# Altium footprint library Texas Instruments Footprints.PcbLib: 429 footprints (part 2 of 32)
Each footprint in its own frame and in the unit in brackets; x right, y up, seen from the top. Pads: shape width x height; smd on the part's side, far side on the other; paste and mask are expansions set on the pad; w line width, h text height; cw(c..) or ccw(c..) is an arc to the next point about the centre after c.
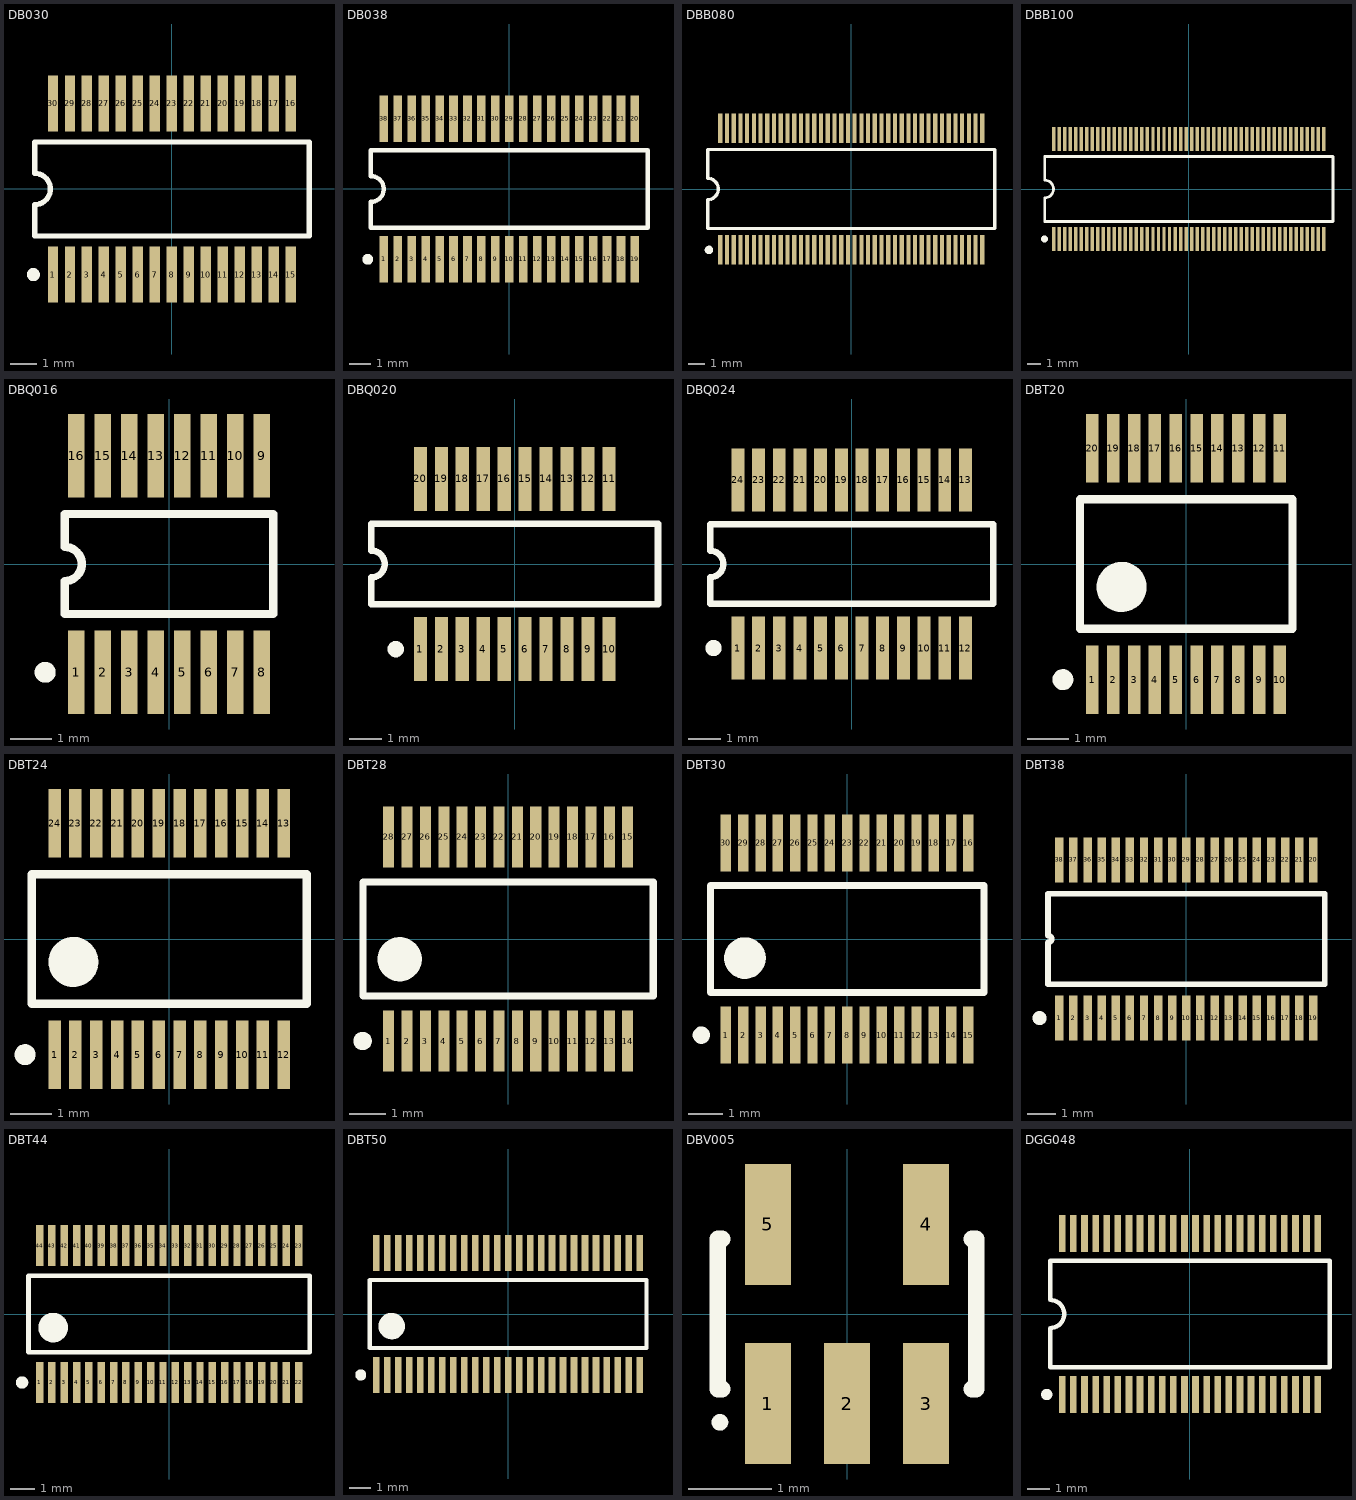
[diagram p1: the footprints below, top view; thin cyan lines are the x and y axes]

## DB030 [mm] "SSOP, Plastic; 30 Leads; Body Width 5.3 mm; Pitch 0.65 mm"
height 2
pads (30):
  rect 0.4x2.15 smd: 1(-4.55,-3.275) 2(-3.9,-3.275) 3(-3.25,-3.275) 4(-2.6,-3.275) 5(-1.95,-3.275) 6(-1.3,-3.275) 7(-0.65,-3.275) 8(0,-3.275) 9(0.65,-3.275) 10(1.3,-3.275) 11(1.95,-3.275) 12(2.6,-3.275) 13(3.25,-3.275) 14(3.9,-3.275) 15(4.55,-3.275) 16(4.55,3.275) 17(3.9,3.275) 18(3.25,3.275) 19(2.6,3.275) 20(1.95,3.275) 21(1.3,3.275) 22(0.65,3.275) 23(0,3.275) 24(-0.65,3.275) 25(-1.3,3.275) 26(-1.95,3.275) 27(-2.6,3.275) 28(-3.25,3.275) 29(-3.9,3.275) 30(-4.55,3.275)
Top Overlay:
  circle w0.25: c-5.3,-3.275 r0.125
  lines w0.2: -5.25,-1.8 -5.25,-0.6 ccw(c-5.25,0) -5.25,0.6 -5.25,1.8 5.25,1.8 5.25,-1.8 -5.25,-1.8

## DB038 [mm] "SSOP, Plastic; 38 Leads; Body Width 5.3 mm; Pitch 0.65 mm"
height 2
pads (38):
  rect 0.4x2.15 smd: 1(-5.85,-3.275) 2(-5.2,-3.275) 3(-4.55,-3.275) 4(-3.9,-3.275) 5(-3.25,-3.275) 6(-2.6,-3.275) 7(-1.95,-3.275) 8(-1.3,-3.275) 9(-0.65,-3.275) 10(0,-3.275) 11(0.65,-3.275) 12(1.3,-3.275) 13(1.95,-3.275) 14(2.6,-3.275) 15(3.25,-3.275) 16(3.9,-3.275) 17(4.55,-3.275) 18(5.2,-3.275) 19(5.85,-3.275) 20(5.85,3.275) 21(5.2,3.275) 22(4.55,3.275) 23(3.9,3.275) 24(3.25,3.275) 25(2.6,3.275) 26(1.95,3.275) 27(1.3,3.275) 28(0.65,3.275) 29(0,3.275) 30(-0.65,3.275) 31(-1.3,3.275) 32(-1.95,3.275) 33(-2.6,3.275) 34(-3.25,3.275) 35(-3.9,3.275) 36(-4.55,3.275) 37(-5.2,3.275) 38(-5.85,3.275)
Top Overlay:
  circle w0.25: c-6.6,-3.275 r0.125
  lines w0.2: -6.45,-1.8 6.45,-1.8 6.45,1.8 -6.45,1.8 -6.45,0.6 cw(c-6.45,0) -6.45,-0.6 -6.45,-1.8

## DBB080 [mm] "Shrink Small Outline; 80 Leads; Body Width 6.1 mm; Pitch 0.4 mm"
height 1.2
pads (80):
  rect 0.25x1.75 smd: 1(-7.8,-3.625) 2(-7.4,-3.625) 3(-7,-3.625) 4(-6.6,-3.625) 5(-6.2,-3.625) 6(-5.8,-3.625) 7(-5.4,-3.625) 8(-5,-3.625) 9(-4.6,-3.625) 10(-4.2,-3.625) 11(-3.8,-3.625) 12(-3.4,-3.625) 13(-3,-3.625) 14(-2.6,-3.625) 15(-2.2,-3.625) 16(-1.8,-3.625) 17(-1.4,-3.625) 18(-1,-3.625) 19(-0.6,-3.625) 20(-0.2,-3.625) 21(0.2,-3.625) 22(0.6,-3.625) 23(1,-3.625) 24(1.4,-3.625) 25(1.8,-3.625) 26(2.2,-3.625) 27(2.6,-3.625) 28(3,-3.625) 29(3.4,-3.625) 30(3.8,-3.625) 31(4.2,-3.625) 32(4.6,-3.625) 33(5,-3.625) 34(5.4,-3.625) 35(5.8,-3.625) 36(6.2,-3.625) 37(6.6,-3.625) 38(7,-3.625) 39(7.4,-3.625) 40(7.8,-3.625) 41(7.8,3.625) 42(7.4,3.625) 43(7,3.625) 44(6.6,3.625) 45(6.2,3.625) 46(5.8,3.625) 47(5.4,3.625) 48(5,3.625) 49(4.6,3.625) 50(4.2,3.625) 51(3.8,3.625) 52(3.4,3.625) 53(3,3.625) 54(2.6,3.625) 55(2.2,3.625) 56(1.8,3.625) 57(1.4,3.625) 58(1,3.625) 59(0.6,3.625) 60(0.2,3.625) 61(-0.2,3.625) 62(-0.6,3.625) 63(-1,3.625) 64(-1.4,3.625) 65(-1.8,3.625) 66(-2.2,3.625) 67(-2.6,3.625) 68(-3,3.625) 69(-3.4,3.625) 70(-3.8,3.625) 71(-4.2,3.625) 72(-4.6,3.625) 73(-5,3.625) 74(-5.4,3.625) 75(-5.8,3.625) 76(-6.2,3.625) 77(-6.6,3.625) 78(-7,3.625) 79(-7.4,3.625) 80(-7.8,3.625)
Top Overlay:
  circle w0.25: c-8.475,-3.625 r0.125
  lines w0.2: -8.55,-2.35 -8.55,-0.635 ccw(c-8.55,0) -8.55,0.635 -8.55,2.35 8.55,2.35 8.55,-2.35 -8.55,-2.35

## DBB100 [mm] "Shrink Small Outline; 100 Leads; Body Width 6.1 mm; Pitch 0.4 mm"
height 1.2
pads (100):
  rect 0.25x1.75 smd: 1(-9.8,-3.625) 2(-9.4,-3.625) 3(-9,-3.625) 4(-8.6,-3.625) 5(-8.2,-3.625) 6(-7.8,-3.625) 7(-7.4,-3.625) 8(-7,-3.625) 9(-6.6,-3.625) 10(-6.2,-3.625) 11(-5.8,-3.625) 12(-5.4,-3.625) 13(-5,-3.625) 14(-4.6,-3.625) 15(-4.2,-3.625) 16(-3.8,-3.625) 17(-3.4,-3.625) 18(-3,-3.625) 19(-2.6,-3.625) 20(-2.2,-3.625) 21(-1.8,-3.625) 22(-1.4,-3.625) 23(-1,-3.625) 24(-0.6,-3.625) 25(-0.2,-3.625) 26(0.2,-3.625) 27(0.6,-3.625) 28(1,-3.625) 29(1.4,-3.625) 30(1.8,-3.625) 31(2.2,-3.625) 32(2.6,-3.625) 33(3,-3.625) 34(3.4,-3.625) 35(3.8,-3.625) 36(4.2,-3.625) 37(4.6,-3.625) 38(5,-3.625) 39(5.4,-3.625) 40(5.8,-3.625) 41(6.2,-3.625) 42(6.6,-3.625) 43(7,-3.625) 44(7.4,-3.625) 45(7.8,-3.625) 46(8.2,-3.625) 47(8.6,-3.625) 48(9,-3.625) 49(9.4,-3.625) 50(9.8,-3.625) 51(9.8,3.625) 52(9.4,3.625) 53(9,3.625) 54(8.6,3.625) 55(8.2,3.625) 56(7.8,3.625) 57(7.4,3.625) 58(7,3.625) 59(6.6,3.625) 60(6.2,3.625) 61(5.8,3.625) 62(5.4,3.625) 63(5,3.625) 64(4.6,3.625) 65(4.2,3.625) 66(3.8,3.625) 67(3.4,3.625) 68(3,3.625) 69(2.6,3.625) 70(2.2,3.625) 71(1.8,3.625) 72(1.4,3.625) 73(1,3.625) 74(0.6,3.625) 75(0.2,3.625) 76(-0.2,3.625) 77(-0.6,3.625) 78(-1,3.625) 79(-1.4,3.625) 80(-1.8,3.625) 81(-2.2,3.625) 82(-2.6,3.625) 83(-3,3.625) 84(-3.4,3.625) 85(-3.8,3.625) 86(-4.2,3.625) 87(-4.6,3.625) 88(-5,3.625) 89(-5.4,3.625) 90(-5.8,3.625) 91(-6.2,3.625) 92(-6.6,3.625) 93(-7,3.625) 94(-7.4,3.625) 95(-7.8,3.625) 96(-8.2,3.625) 97(-8.6,3.625) 98(-9,3.625) 99(-9.4,3.625) 100(-9.8,3.625)
Top Overlay:
  circle w0.25: c-10.475,-3.625 r0.125
  lines w0.2: -10.45,-2.35 -10.45,-0.635 ccw(c-10.45,0) -10.45,0.635 -10.45,2.35 10.45,2.35 10.45,-2.35 -10.45,-2.35

## DBQ016 [mm] "SSOP; 16 Leads; Body Width 3.9 mm; Pitch 0.635 mm"
height 1.76
pads (16):
  rect 0.4x2 smd: 1(-2.222,-2.6) 2(-1.587,-2.6) 3(-0.953,-2.6) 4(-0.318,-2.6) 5(0.318,-2.6) 6(0.953,-2.6) 7(1.587,-2.6) 8(2.222,-2.6) 9(2.222,2.6) 10(1.587,2.6) 11(0.953,2.6) 12(0.318,2.6) 13(-0.318,2.6) 14(-0.953,2.6) 15(-1.587,2.6) 16(-2.222,2.6)
Top Overlay:
  circle w0.25: c-2.973,-2.6 r0.125
  lines w0.2: -2.5,-1.2 2.5,-1.2 2.5,1.2 -2.5,1.2 -2.5,0.408 cw(c-2.5,0) -2.5,-0.408 -2.5,-1.2

## DBQ020 [mm] "SSOP; 20 Leads; Body Width 3.9 mm; Pitch 0.64 mm"
height 1.75
pads (20):
  rect 0.4x1.95 smd: 1(-2.88,-2.6) 2(-2.24,-2.6) 3(-1.6,-2.6) 4(-0.96,-2.6) 5(-0.32,-2.6) 6(0.32,-2.6) 7(0.96,-2.6) 8(1.6,-2.6) 9(2.24,-2.6) 10(2.88,-2.6) 11(2.88,2.6) 12(2.24,2.6) 13(1.6,2.6) 14(0.96,2.6) 15(0.32,2.6) 16(-0.32,2.6) 17(-0.96,2.6) 18(-1.6,2.6) 19(-2.24,2.6) 20(-2.88,2.6)
Top Overlay:
  circle w0.25: c-3.63,-2.6 r0.125
  lines w0.2: -4.375,-1.225 -4.375,-0.408 ccw(c-4.375,0) -4.375,0.408 -4.375,1.225 4.375,1.225 4.375,-1.225 -4.375,-1.225

## DBQ024 [mm] "SSOP; 24 Leads; Body Width 3.9 mm; Pitch 0.64 mm"
height 1.75
pads (24):
  rect 0.4x1.95 smd: 1(-3.52,-2.6) 2(-2.88,-2.6) 3(-2.24,-2.6) 4(-1.6,-2.6) 5(-0.96,-2.6) 6(-0.32,-2.6) 7(0.32,-2.6) 8(0.96,-2.6) 9(1.6,-2.6) 10(2.24,-2.6) 11(2.88,-2.6) 12(3.52,-2.6) 13(3.52,2.6) 14(2.88,2.6) 15(2.24,2.6) 16(1.6,2.6) 17(0.96,2.6) 18(0.32,2.6) 19(-0.32,2.6) 20(-0.96,2.6) 21(-1.6,2.6) 22(-2.24,2.6) 23(-2.88,2.6) 24(-3.52,2.6)
Top Overlay:
  circle w0.25: c-4.27,-2.6 r0.125
  lines w0.2: -4.375,-1.225 -4.375,-0.408 ccw(c-4.375,0) -4.375,0.408 -4.375,1.225 4.375,1.225 4.375,-1.225 -4.375,-1.225

## DBT20 [mm] "Shrink Small Outline; 20 Leads; Body Width 4.4 mm; Pitch 0.5 mm"
height 1.2
pads (20):
  rect 0.3x1.65 smd: 1(-2.25,-2.775) 2(-1.75,-2.775) 3(-1.25,-2.775) 4(-0.75,-2.775) 5(-0.25,-2.775) 6(0.25,-2.775) 7(0.75,-2.775) 8(1.25,-2.775) 9(1.75,-2.775) 10(2.25,-2.775) 11(2.25,2.775) 12(1.75,2.775) 13(1.25,2.775) 14(0.75,2.775) 15(0.25,2.775) 16(-0.25,2.775) 17(-0.75,2.775) 18(-1.25,2.775) 19(-1.75,2.775) 20(-2.25,2.775)
Top Overlay:
  circle w0.6: c-1.55,-0.55 r0.3
  circle w0.25: c-2.96,-2.775 r0.125
  lines w0.2: -2.55,-1.55 2.55,-1.55 2.55,1.55 -2.55,1.55 -2.55,-0.517 -2.55,-1.55

## DBT24 [mm] "Shrink Small Outline; 24 Leads; Body Width 4.4 mm; Pitch 0.5 mm"
height 1.2
pads (24):
  rect 0.3x1.65 smd: 1(-2.75,-2.775) 2(-2.25,-2.775) 3(-1.75,-2.775) 4(-1.25,-2.775) 5(-0.75,-2.775) 6(-0.25,-2.775) 7(0.25,-2.775) 8(0.75,-2.775) 9(1.25,-2.775) 10(1.75,-2.775) 11(2.25,-2.775) 12(2.75,-2.775) 13(2.75,2.775) 14(2.25,2.775) 15(1.75,2.775) 16(1.25,2.775) 17(0.75,2.775) 18(0.25,2.775) 19(-0.25,2.775) 20(-0.75,2.775) 21(-1.25,2.775) 22(-1.75,2.775) 23(-2.25,2.775) 24(-2.75,2.775)
Top Overlay:
  circle w0.25: c-3.46,-2.775 r0.125
  circle w0.6: c-2.3,-0.55 r0.3
  lines w0.2: -3.3,-1.55 -3.3,-0.517 -3.3,1.55 3.3,1.55 3.3,-1.55 -3.3,-1.55

## DBT28 [mm] "Shrink Small Outline; 28 Leads; Body Width 4.4 mm; Pitch 0.5 mm"
height 1.2
pads (28):
  rect 0.3x1.65 smd: 1(-3.25,-2.775) 2(-2.75,-2.775) 3(-2.25,-2.775) 4(-1.75,-2.775) 5(-1.25,-2.775) 6(-0.75,-2.775) 7(-0.25,-2.775) 8(0.25,-2.775) 9(0.75,-2.775) 10(1.25,-2.775) 11(1.75,-2.775) 12(2.25,-2.775) 13(2.75,-2.775) 14(3.25,-2.775) 15(3.25,2.775) 16(2.75,2.775) 17(2.25,2.775) 18(1.75,2.775) 19(1.25,2.775) 20(0.75,2.775) 21(0.25,2.775) 22(-0.25,2.775) 23(-0.75,2.775) 24(-1.25,2.775) 25(-1.75,2.775) 26(-2.25,2.775) 27(-2.75,2.775) 28(-3.25,2.775)
Top Overlay:
  circle w0.25: c-3.96,-2.775 r0.125
  circle w0.6: c-2.95,-0.55 r0.3
  lines w0.2: -3.95,-1.55 -3.95,-0.517 -3.95,1.55 3.95,1.55 3.95,-1.55 -3.95,-1.55

## DBT30 [mm] "Shrink Small Outline; 30 Leads; Body Width 4.4 mm; Pitch 0.5 mm"
height 1.2
pads (30):
  rect 0.3x1.65 smd: 1(-3.5,-2.775) 2(-3,-2.775) 3(-2.5,-2.775) 4(-2,-2.775) 5(-1.5,-2.775) 6(-1,-2.775) 7(-0.5,-2.775) 8(0,-2.775) 9(0.5,-2.775) 10(1,-2.775) 11(1.5,-2.775) 12(2,-2.775) 13(2.5,-2.775) 14(3,-2.775) 15(3.5,-2.775) 16(3.5,2.775) 17(3,2.775) 18(2.5,2.775) 19(2,2.775) 20(1.5,2.775) 21(1,2.775) 22(0.5,2.775) 23(0,2.775) 24(-0.5,2.775) 25(-1,2.775) 26(-1.5,2.775) 27(-2,2.775) 28(-2.5,2.775) 29(-3,2.775) 30(-3.5,2.775)
Top Overlay:
  circle w0.6: c-2.95,-0.55 r0.3
  circle w0.25: c-4.21,-2.775 r0.125
  lines w0.2: -3.95,-1.55 3.95,-1.55 3.95,1.55 -3.95,1.55 -3.95,-0.517 -3.95,-1.55

## DBT38 [mm] "Shrink Small Outline; 38 Leads; Body Width 4.4 mm; Pitch 0.5 mm"
height 1.2
pads (38):
  rect 0.3x1.6 smd: 1(-4.5,-2.8) 2(-4,-2.8) 3(-3.5,-2.8) 4(-3,-2.8) 5(-2.5,-2.8) 6(-2,-2.8) 7(-1.5,-2.8) 8(-1,-2.8) 9(-0.5,-2.8) 10(0,-2.8) 11(0.5,-2.8) 12(1,-2.8) 13(1.5,-2.8) 14(2,-2.8) 15(2.5,-2.8) 16(3,-2.8) 17(3.5,-2.8) 18(4,-2.8) 19(4.5,-2.8) 20(4.5,2.8) 21(4,2.8) 22(3.5,2.8) 23(3,2.8) 24(2.5,2.8) 25(2,2.8) 26(1.5,2.8) 27(1,2.8) 28(0.5,2.8) 29(0,2.8) 30(-0.5,2.8) 31(-1,2.8) 32(-1.5,2.8) 33(-2,2.8) 34(-2.5,2.8) 35(-3,2.8) 36(-3.5,2.8) 37(-4,2.8) 38(-4.5,2.8)
Top Overlay:
  circle w0.25: c-5.2,-2.8 r0.125
  lines w0.2: -4.9,-1.6 -4.9,-0.125 ccw(c-4.9,0) -4.9,0.125 -4.9,1.6 4.9,1.6 4.9,-1.6 -4.9,-1.6

## DBT44 [mm] "Shrink Small Outline; 44 Leads; Body Width 4.4 mm; Pitch 0.5 mm"
height 1.2
pads (44):
  rect 0.3x1.65 smd: 1(-5.25,-2.775) 2(-4.75,-2.775) 3(-4.25,-2.775) 4(-3.75,-2.775) 5(-3.25,-2.775) 6(-2.75,-2.775) 7(-2.25,-2.775) 8(-1.75,-2.775) 9(-1.25,-2.775) 10(-0.75,-2.775) 11(-0.25,-2.775) 12(0.25,-2.775) 13(0.75,-2.775) 14(1.25,-2.775) 15(1.75,-2.775) 16(2.25,-2.775) 17(2.75,-2.775) 18(3.25,-2.775) 19(3.75,-2.775) 20(4.25,-2.775) 21(4.75,-2.775) 22(5.25,-2.775) 23(5.25,2.775) 24(4.75,2.775) 25(4.25,2.775) 26(3.75,2.775) 27(3.25,2.775) 28(2.75,2.775) 29(2.25,2.775) 30(1.75,2.775) 31(1.25,2.775) 32(0.75,2.775) 33(0.25,2.775) 34(-0.25,2.775) 35(-0.75,2.775) 36(-1.25,2.775) 37(-1.75,2.775) 38(-2.25,2.775) 39(-2.75,2.775) 40(-3.25,2.775) 41(-3.75,2.775) 42(-4.25,2.775) 43(-4.75,2.775) 44(-5.25,2.775)
Top Overlay:
  circle w0.25: c-5.96,-2.775 r0.125
  circle w0.6: c-4.7,-0.55 r0.3
  lines w0.2: -5.7,-1.55 -5.7,-0.517 -5.7,1.55 5.7,1.55 5.7,-1.55 -5.7,-1.55

## DBT50 [mm] "Shrink Small Outline; 50 Leads; Body Width 4.4 mm; Pitch 0.5 mm"
height 1.2
pads (50):
  rect 0.3x1.65 smd: 1(-6,-2.775) 2(-5.5,-2.775) 3(-5,-2.775) 4(-4.5,-2.775) 5(-4,-2.775) 6(-3.5,-2.775) 7(-3,-2.775) 8(-2.5,-2.775) 9(-2,-2.775) 10(-1.5,-2.775) 11(-1,-2.775) 12(-0.5,-2.775) 13(0,-2.775) 14(0.5,-2.775) 15(1,-2.775) 16(1.5,-2.775) 17(2,-2.775) 18(2.5,-2.775) 19(3,-2.775) 20(3.5,-2.775) 21(4,-2.775) 22(4.5,-2.775) 23(5,-2.775) 24(5.5,-2.775) 25(6,-2.775) 26(6,2.775) 27(5.5,2.775) 28(5,2.775) 29(4.5,2.775) 30(4,2.775) 31(3.5,2.775) 32(3,2.775) 33(2.5,2.775) 34(2,2.775) 35(1.5,2.775) 36(1,2.775) 37(0.5,2.775) 38(0,2.775) 39(-0.5,2.775) 40(-1,2.775) 41(-1.5,2.775) 42(-2,2.775) 43(-2.5,2.775) 44(-3,2.775) 45(-3.5,2.775) 46(-4,2.775) 47(-4.5,2.775) 48(-5,2.775) 49(-5.5,2.775) 50(-6,2.775)
Top Overlay:
  circle w0.6: c-5.3,-0.55 r0.3
  circle w0.25: c-6.71,-2.775 r0.125
  lines w0.2: -6.3,-1.55 6.3,-1.55 6.3,1.55 -6.3,1.55 -6.3,-0.517 -6.3,-1.55

## DBV005 [mm] "SOT-23/SC-74A; 5 Leads; Body 3 x 3 mm, inc. leads (LxW max)"
height 1.45
pads (5):
  rect 0.55x1.45 smd: 1(-0.95,-1.075) 2(0,-1.075) 3(0.95,-1.075) 4(0.95,1.075) 5(-0.95,1.075)
Top Overlay:
  circle w0.1: c-1.525,-1.3 r0.05
  lines w0.2: -1.5,-0.9 -1.55,-0.9 -1.55,0.9 -1.5,0.9 ; 1.5,-0.9 1.55,-0.9 1.55,0.9 1.5,0.9

## DGG048 [mm] "Shrink Small Outline; 48 Leads; Body Width 6.1 mm; Pitch 0.5 mm"
height 1.2
pads (48):
  rect 0.3x1.65 smd: 1(-5.75,-3.625) 2(-5.25,-3.625) 3(-4.75,-3.625) 4(-4.25,-3.625) 5(-3.75,-3.625) 6(-3.25,-3.625) 7(-2.75,-3.625) 8(-2.25,-3.625) 9(-1.75,-3.625) 10(-1.25,-3.625) 11(-0.75,-3.625) 12(-0.25,-3.625) 13(0.25,-3.625) 14(0.75,-3.625) 15(1.25,-3.625) 16(1.75,-3.625) 17(2.25,-3.625) 18(2.75,-3.625) 19(3.25,-3.625) 20(3.75,-3.625) 21(4.25,-3.625) 22(4.75,-3.625) 23(5.25,-3.625) 24(5.75,-3.625) 25(5.75,3.625) 26(5.25,3.625) 27(4.75,3.625) 28(4.25,3.625) 29(3.75,3.625) 30(3.25,3.625) 31(2.75,3.625) 32(2.25,3.625) 33(1.75,3.625) 34(1.25,3.625) 35(0.75,3.625) 36(0.25,3.625) 37(-0.25,3.625) 38(-0.75,3.625) 39(-1.25,3.625) 40(-1.75,3.625) 41(-2.25,3.625) 42(-2.75,3.625) 43(-3.25,3.625) 44(-3.75,3.625) 45(-4.25,3.625) 46(-4.75,3.625) 47(-5.25,3.625) 48(-5.75,3.625)
Top Overlay:
  circle w0.25: c-6.45,-3.625 r0.125
  lines w0.2: -6.3,-2.4 -6.3,-0.635 ccw(c-6.3,0) -6.3,0.635 -6.3,2.4 6.3,2.4 6.3,-2.4 -6.3,-2.4